# EAGLE library part LTC6409_1 (library mylibrary)
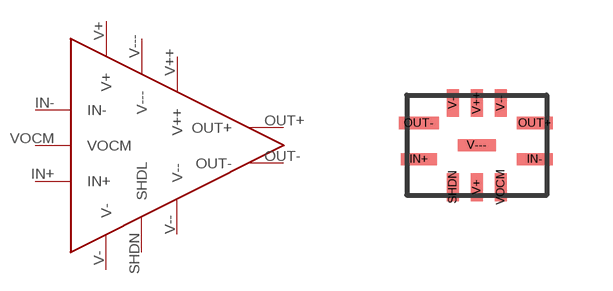
[diagram p6: symbol with the pads of LTC6409_1; footprint LTC6409_1]

Designator prefix LTC

## LTC6409_1  [LTC6409_1]
IN+  IN+
IN-  IN-
OUT+  OUT+
OUT-  OUT-
SHDN  SHDL
V+  V+
V++  V++
V-  V-
V--  V--
V---  V---
VOCM  VOCM

## Footprint LTC6409_1 (pad centres in mm)
smd 0.9 x 0.3: IN+ -1.45,-0.35; IN- 1.45,-0.35; OUT+ 1.45,0.55
smd 1 x 0.3: OUT- -1.45,0.55
smd 0.3 x 0.7: SHDN -0.6,-1.05; V+ 0,-1.05; V++ 0,1.05; V- -0.6,1.05; V-- 0.6,1.05; VOCM 0.6,-1.05
smd 0.95 x 0.3: V--- 0,0